# Altium schematic symbol library SFH6916.SchLib: 1 symbol
Pins are listed as number, name and electrical type; pins without a type are passive.

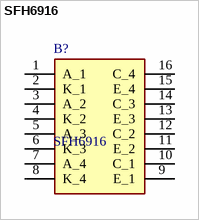
[diagram p0: symbol SFH6916]

## SFH6916
designator B?
Optocoupler DC-IN 4-CH Trans DC-OUT; Manufacturer_Name: Vishay; Geometry.Height: 2.3mm; Mouser Part Number: 782-SFH6916; Mouser Price/Stock: https://www.mouser.co.uk/ProductDetail/Vishay-Semiconductors/SFH6916?qs=xCMk%252BIHWTZMHOsdqeojy6Q%3D%3D; Manufacturer_Part_Number: SFH6916; Datasheet Link: http://www.vishay.com/docs/83687/sfh6916.pdf
footprint SOIC127P700X230-16N
pins: 1 A_1, 2 K_1, 3 A_2, 4 K_2, 5 A_3, 6 K_3, 7 A_4, 8 K_4, 9 E_1, 10 C_1, 11 E_2, 12 C_2, 13 E_3, 14 C_3, 15 E_4, 16 C_4